# EAGLE library part MAIN-STACK-CONN-WIDEPITCH (library interface (2))
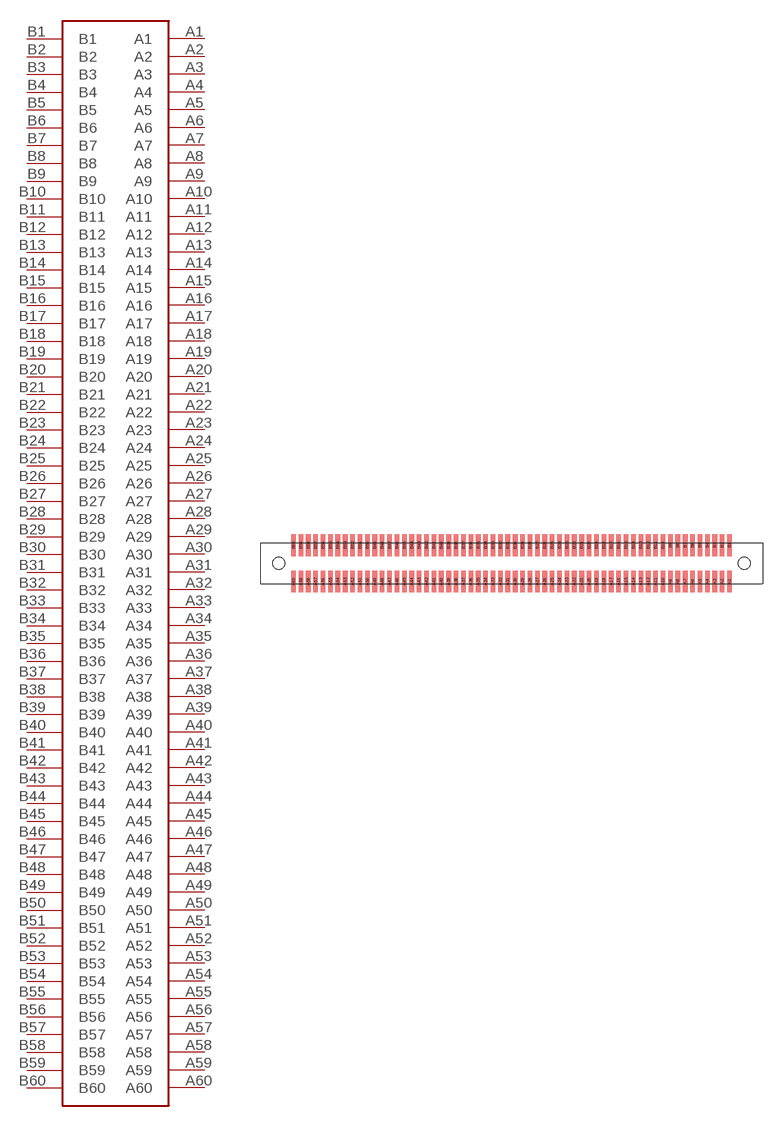
[diagram p2: symbol with the pads of STACK-CONN-WIDEPITCH; footprint STACK-CONN-WIDEPITCH]

Designator prefix -

## MAIN-STACK-CONN-WIDEPITCH  [STACK-CONN-WIDEPITCH]
A1  A1
A2  A2
A3  A3
A4  A4
A5  A5
A6  A6
A7  A7
A8  A8
A9  A9
A10  A10
A11  A11
A12  A12
A13  A13
A14  A14
A15  A15
A16  A16
A17  A17
A18  A18
A19  A19
A20  A20
A21  A21
A22  A22
A23  A23
A24  A24
A25  A25
A26  A26
A27  A27
A28  A28
A29  A29
A30  A30
A31  A31
A32  A32
A33  A33
A34  A34
A35  A35
A36  A36
A37  A37
A38  A38
A39  A39
A40  A40
A41  A41
A42  A42
A43  A43
A44  A44
A45  A45
A46  A46
A47  A47
A48  A48
A49  A49
A50  A50
A51  A51
A52  A52
A53  A53
A54  A54
A55  A55
A56  A56
A57  A57
A58  A58
A59  A59
A60  A60
B1  B1
B2  B2
B3  B3
B4  B4
B5  B5
B6  B6
B7  B7
B8  B8
B9  B9
B10  B10
B11  B11
B12  B12
B13  B13
B14  B14
B15  B15
B16  B16
B17  B17
B18  B18
B19  B19
B20  B20
B21  B21
B22  B22
B23  B23
B24  B24
B25  B25
B26  B26
B27  B27
B28  B28
B29  B29
B30  B30
B31  B31
B32  B32
B33  B33
B34  B34
B35  B35
B36  B36
B37  B37
B38  B38
B39  B39
B40  B40
B41  B41
B42  B42
B43  B43
B44  B44
B45  B45
B46  B46
B47  B47
B48  B48
B49  B49
B50  B50
B51  B51
B52  B52
B53  B53
B54  B54
B55  B55
B56  B56
B57  B57
B58  B58
B59  B59
B60  B60

## Footprint STACK-CONN-WIDEPITCH (pad centres in mm)
smd 0.8 x 3.75: A1 37.465,-3.125; A2 36.195,-3.125; A3 34.925,-3.125; A4 33.655,-3.125; A5 32.385,-3.125; A6 31.115,-3.125; A7 29.845,-3.125; A8 28.575,-3.125; A9 27.305,-3.125; A10 26.035,-3.125; A11 24.765,-3.125; A12 23.495,-3.125; A13 22.225,-3.125; A14 20.955,-3.125; A15 19.685,-3.125; A16 18.415,-3.125; A17 17.145,-3.125; A18 15.875,-3.125; A19 14.605,-3.125; A20 13.335,-3.125; A21 12.065,-3.125; A22 10.795,-3.125; A23 9.525,-3.125; A24 8.255,-3.125; A25 6.985,-3.125; A26 5.715,-3.125; A27 4.445,-3.125; A28 3.175,-3.125; A29 1.905,-3.125; A30 0.635,-3.125; A31 -0.635,-3.125; A32 -1.905,-3.125; A33 -3.175,-3.125; A34 -4.445,-3.125; A35 -5.715,-3.125; A36 -6.985,-3.125; A37 -8.255,-3.125; A38 -9.525,-3.125; A39 -10.795,-3.125; A40 -12.065,-3.125; A41 -13.335,-3.125; A42 -14.605,-3.125; A43 -15.875,-3.125; A44 -17.145,-3.125; A45 -18.415,-3.125; A46 -19.685,-3.125; A47 -20.955,-3.125; A48 -22.225,-3.125; A49 -23.495,-3.125; A50 -24.765,-3.125; A51 -26.035,-3.125; A52 -27.305,-3.125; A53 -28.575,-3.125; A54 -29.845,-3.125; A55 -31.115,-3.125; A56 -32.385,-3.125; A57 -33.655,-3.125; A58 -34.925,-3.125; A59 -36.195,-3.125; A60 -37.465,-3.125; B1 37.465,3.125; B2 36.195,3.125; B3 34.925,3.125; B4 33.655,3.125; B5 32.385,3.125; B6 31.115,3.125; B7 29.845,3.125; B8 28.575,3.125; B9 27.305,3.125; B10 26.035,3.125; B11 24.765,3.125; B12 23.495,3.125; B13 22.225,3.125; B14 20.955,3.125; B15 19.685,3.125; B16 18.415,3.125; B17 17.145,3.125; B18 15.875,3.125; B19 14.605,3.125; B20 13.335,3.125; B21 12.065,3.125; B22 10.795,3.125; B23 9.525,3.125; B24 8.255,3.125; B25 6.985,3.125; B26 5.715,3.125; B27 4.445,3.125; B28 3.175,3.125; B29 1.905,3.125; B30 0.635,3.125; B31 -0.635,3.125; B32 -1.905,3.125; B33 -3.175,3.125; B34 -4.445,3.125; B35 -5.715,3.125; B36 -6.985,3.125; B37 -8.255,3.125; B38 -9.525,3.125; B39 -10.795,3.125; B40 -12.065,3.125; B41 -13.335,3.125; B42 -14.605,3.125; B43 -15.875,3.125; B44 -17.145,3.125; B45 -18.415,3.125; B46 -19.685,3.125; B47 -20.955,3.125; B48 -22.225,3.125; B49 -23.495,3.125; B50 -24.765,3.125; B51 -26.035,3.125; B52 -27.305,3.125; B53 -28.575,3.125; B54 -29.845,3.125; B55 -31.115,3.125; B56 -32.385,3.125; B57 -33.655,3.125; B58 -34.925,3.125; B59 -36.195,3.125; B60 -37.465,3.125
hole 2.1 at -40,0
hole 2.1 at 40,0